# EAGLE library part 614105150721 (library Eagle_WR-USB (rev25c))
WR-COM Micro USB 2.0 Type B Vertical 5 Contacts General Information Operating Temperature -40 °C up to +85 °C Compliance RoHS Durability 10 000 Mating cycles Quality Class 10 000 Mating cycles Connector Type Micro USB Gender Receptacle Type Vertical Electrical Properties IR 1.8 A Working Voltage 30 V (AC) Withstanding Voltage 100 V (AC) Contact Resistance 30 mΩ Material Properties Insulator Material LCP Insulator Flammability Rating UL94 V-0 Color Black Contact Material Copper Alloy Contact Plating Gold Contact Type Stamped Shielding Material Stainless Steel Shielding Plating Matte Tin <https://www.we-online.com/components/media/o72645v209%20Family_WR-COM_Micro-USB-Type-B_Vertical_614105150721.jpg> Details see: www.we-online.com/en/components/products/COM_MICRO_TYPE_B_VERTICAL <www.we-online.com/catalog/COM_MICRO_TYPE_B_VERTICAL/?utm_source=eagle_model&utm_medium=description_link&utm_campaign=eisos_eagle> Updated by Ella 2024-05-21 2024 (C) Würth Elektronik
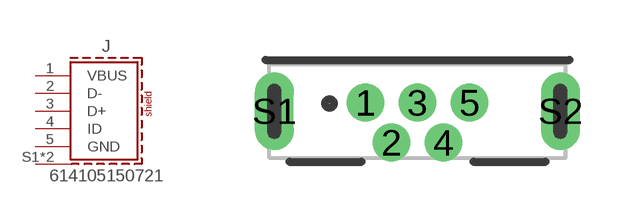
[diagram p14: symbol with the pads of 614105150721; footprint 614105150721]

Designator prefix J

## 614105150721 (APPLICATION: Micro USB 2.0; DATASHEET-URL: https://www.we-online.com/redexpert/spec/614105150721?ae; GERDER: Receptacle; INTERFACE-TYPE: Type B; IR: 1.8A; MOUNT: THT; PACKAGING: Tape and Reel; PART-NUMBER: 614105150721; PINS: 5pcs; TYPE: Vertical; VALUE: 614105150721; WORKING-VOLTAGE: 30VAC)  [614105150721]
1  VBUS  pas
2  D-  pas
3  D+  pas
4  ID  pas
5  GND  pas
S1  SHIELD  pas
S2  SHIELD  pas

## Footprint 614105150721 (pad centres in mm)
WR-COM Micro USB 2.0 Type B Vertical 5 Contacts THT, 5 pins
drill 0.44: 1 -1.3,0.125; 2 -0.65,-0.875; 3 0,0.125; 4 0.65,-0.875; 5 1.3,0.125
drill 0.35 pad 0.97 long: S1 -3.575,-0.095; S2 3.575,-0.095